# EAGLE library part USB_2_0 (library Eagle_CAD_parts)
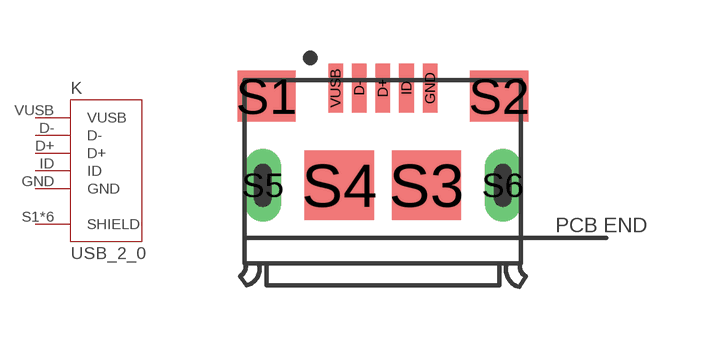
[diagram p28: symbol with the pads of USB_2_MICRO_B_SMD; footprint USB_2_MICRO_B_SMD]

Designator prefix K

## USB_2_0_10118193-0001LF (DIGIKEY_PART_NUMBER: 609-4616-1-ND; MANUFACTURER_PART_NUMBER: 10118193-0001LF)  [USB_2_MICRO_B_SMD]
D+  D+  pas
D-  D-  pas
GND  GND  pas
ID  ID  pas
S1  SHIELD  pas
S2  SHIELD  pas
S3  SHIELD  pas
S4  SHIELD  pas
S5  SHIELD  pas
S6  SHIELD  pas
VUSB  VUSB  pas

## Footprint USB_2_MICRO_B_SMD (pad centres in mm)
smd 0.4 x 1.35: D+ 0,2.675; D- -0.65,2.675; GND 1.3,2.675; ID 0.65,2.675; VUSB -1.3,2.675
smd 1.6 x 1.4: S1 -3.2,2.45; S2 3.2,2.45
smd 1.9 x 1.9: S3 1.2,0; S4 -1.2,0
drill 0.5 pad 0.9 long: S5 -3.3,0; S6 3.3,0